# Altium footprint library PLC M3 PCB.PcbLib: 27 footprints (part 2 of 2)
Each footprint in its own frame and in the unit in brackets; x right, y up, seen from the top. Pads: shape width x height; smd on the part's side, far side on the other; paste and mask are expansions set on the pad; w line width, h text height; cw(c..) or ccw(c..) is an arc to the next point about the centre after c.
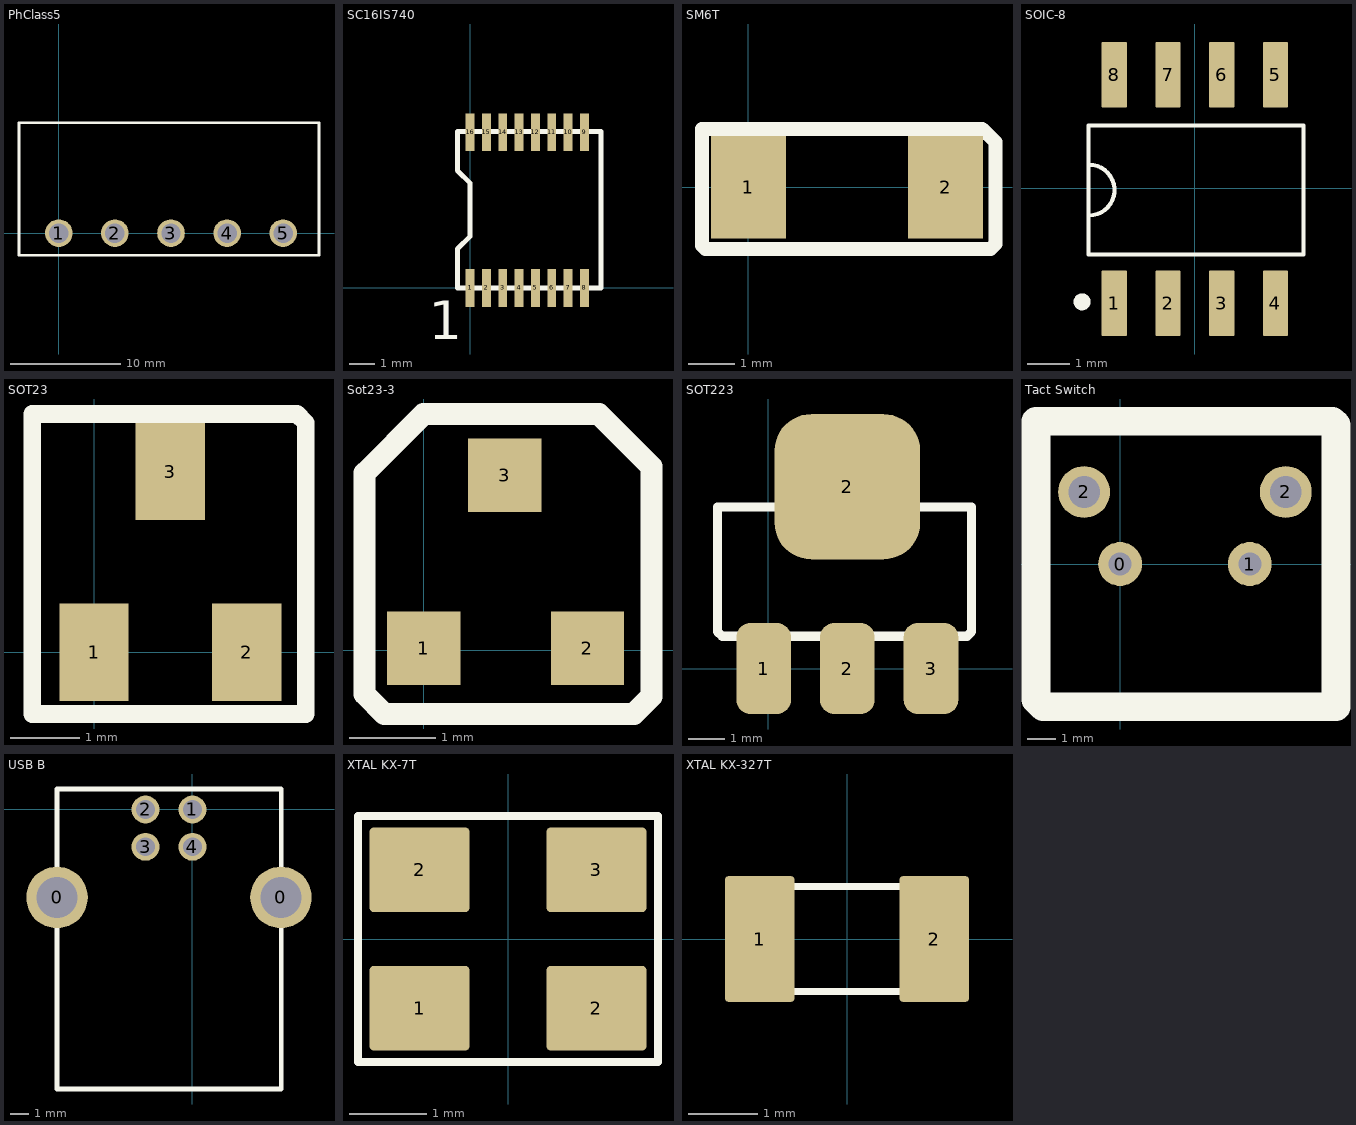
[diagram p1: the footprints below, top view; thin cyan lines are the x and y axes]

## PhClass5 [mm]
height 8
pads (5):
  round 2.5 hole 1.75: 1(0,0) 2(5.08,0) 3(10.16,0) 4(15.24,0) 5(20.32,0)
Top Overlay:
  lines w0.254: -3.6,-2 -3.6,10 23.56,10 23.56,-2 -3.6,-2
3D body "pxc_1757271_06_01_MSTBA-2-5-5-G-5-08_3D.stp": height 8.57, standoff -3.5, extent -3.651,-1.397 23.749,10.603

## SC16IS740 [mm]
height 1
pads (16):
  rect 0.35x1.5 smd mask+0: 1(0,0) 2(0.65,0) 3(1.3,0) 4(1.95,0) 5(2.6,0) 6(3.25,0) 7(3.9,0) 8(4.55,0) 9(4.55,6.2) 10(3.9,6.2) 11(3.25,6.2) 12(2.6,6.2) 13(1.95,6.2) 14(1.3,6.2) 15(0.65,6.2) 16(0,6.2)
Top Overlay:
  lines w0.2: -0.5,0 0,0 5.207,0 5.207,6.223 0,6.223 -0.5,6.223 -0.5,4.667 0,4.167 0,2.056 -0.5,1.556 -0.5,0
  text "1" at -1.651,-2.032 h1.52
3D body "SC16IS740IPW,112.STEP": height 1.1, standoff 0, extent -0.214,-0.152 4.786,6.248

## SM6T [mm]
height 3
pads (2):
  rect 1.6x2.2 smd: 1(0,0) 2(4.22,0)
Top Overlay:
  lines w0.3: -0.991,-1.245 -0.991,1.245 5.004,1.245 5.283,0.965 5.283,-1.219 5.182,-1.321 -0.914,-1.321 -0.991,-1.245

## SOIC-8 [mm]
pads (8):
  rrect10% 0.6x1.55 smd mask+0: 1(-1.902,-2.719) 2(-0.632,-2.719) 3(0.638,-2.719) 4(1.908,-2.719) 5(1.908,2.681) 6(0.638,2.681) 7(-0.632,2.681) 8(-1.902,2.681)
Top Overlay:
  circle w0.2: c-2.664,-2.686 r0.1
  lines w0.1: -2.497,-0.645 ccw(c-2.497,-0.045) -2.497,0.555 ; -2.512,-1.569 -2.512,1.479 2.568,1.479 2.568,-1.569 -2.512,-1.569
Top Solder:
  drawing of 8 lines, arcs and shapes, not listed
3D body "SOIC8-150-50.STEP": height 1.91, standoff 0, extent -2.448,-3.019 2.452,2.981

## SOT23 [mm]
height 1
pads (3):
  rect 1x1.4 smd: 1(0,0) 2(2.2,0) 3(1.1,2.6)
Top Overlay:
  lines w0.254: -0.889,-0.889 -0.889,3.429 2.921,3.429 3.048,3.302 3.048,-0.889 -0.889,-0.889
3D body "BAT54C.STEP": height 1.2, standoff -0.1, extent -0.381,-0.092 2.659,2.508

## Sot23-3 [mm]
height 1
pads (3):
  rect 0.85x0.85 smd: 1(0,0.025) 2(1.9,0.025) 3(0.94,2.032)
Top Overlay:
  lines w0.254: -0.686,-0.508 -0.686,2.057 0,2.743 2.032,2.743 2.642,2.134 2.642,-0.533 2.438,-0.737 -0.457,-0.737 -0.686,-0.508
3D body "CDSOT23-SM712--3DModel-STEP-56544.STEP": height 1.17, standoff 0, extent -0.434,-0.258 2.466,2.037

## SOT223 [mm]
height 1
pads (4):
  rrect50% 1.5x2.5 smd mask+0.1: 1(-0.127,0) 2(2.173,0) 3(4.473,0)
  rrect50% 4x4 smd: 2(2.173,5)
Top Overlay:
  lines w0.254: -1.397,1.016 -1.397,4.445 5.588,4.445 5.588,1.016 5.461,0.889 -1.27,0.889 -1.397,1.016
3D body "LM1117MPX-3.3.STEP": height 1.8, standoff 0, extent -1.091,-0.578 5.409,6.42

## Tact Switch [mm]
pads (4):
  round 1.524 hole 0.8: 0(0,0) 1(4.5,0)
  round 1.8 hole 1.1: 2(-1.25,2.5) 2(5.75,2.5)
Top Overlay:
  lines w1: 0.047,-4.953 7.493,-4.953 7.493,4.826 7.366,4.953 -2.921,4.953 -2.921,-4.699 -2.667,-4.953 1.397,-4.953
3D body "FSMRA4JH04--3DModel-STEP-202343.STEP": height 7.01, standoff -4, extent -2.047,-5.794 6.363,3.866

## USB B [mm]
height 12
pads (6):
  round 3.3 hole 2.21: 0(-7.27,-4.72) 0(4.75,-4.72)
  round 1.5 hole 1: 1(0,0) 2(-2.52,0) 3(-2.52,-2) 4(0,-2)
Top Overlay:
  lines w0.254: -7.27,-15 -7.27,1.1 4.77,1.1 4.77,-15 -7.27,-15
3D body "USB-B-S-S-W-TH-R.stp": height 10.7, standoff -3.74, extent -8.393,-15.212 6.107,1.288

## XTAL KX-7T [mm]
pads (4):
  rrect10% 1.3x1.1 smd mask+0.1: 1(-1.15,-0.9) 2(-1.15,0.9) 2(1.15,-0.9) 3(1.15,0.9)
Top Overlay:
  lines w0.1: -1.95,-1.6 -1.95,1.6 1.95,1.6 1.95,-1.6 -1.95,-1.6
3D body "KX-7 (3225).step": height 0.55, standoff 0, extent -1.6,-1.25 1.6,1.25

## XTAL KX-327T [mm]
pads (2):
  rrect10% 1x1.8 smd: 1(-1.25,0) 2(1.25,0)
Top Overlay:
  lines w0.1: -1.6,-0.75 1.6,-0.75 1.6,0.75 -1.6,0.75 -1.6,-0.75
3D body "KX-327NHT-1.STEP": height 0.71, standoff 0, extent -1.6,-0.75 1.6,0.75